# EAGLE library part PIC32MX250F128B (library john433)
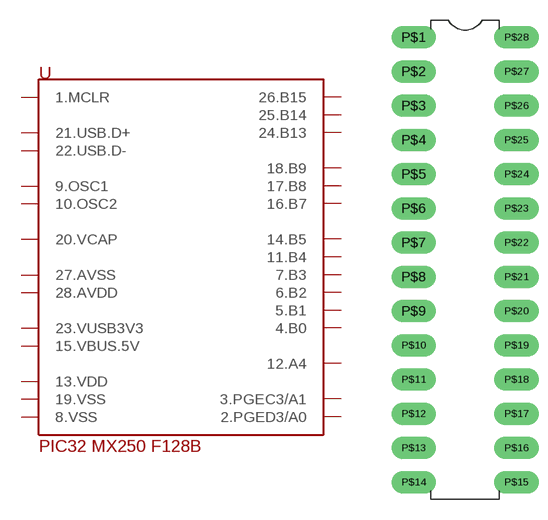
[diagram p0: symbol with the pads of DIL_28_3_JOHN; footprint DIL_28_3_JOHN]

Designator prefix -

## PIC32MX250F128B  [DIL_28_3_JOHN]
P$1  1.MCLR  in
P$2  2.PGED3/A0
P$3  3.PGEC3/A1
P$4  4.B0
P$5  5.B1
P$6  6.B2
P$7  7.B3
P$8  8.VSS  pwr
P$9  9.OSC1  in
P$10  10.OSC2  in
P$11  11.B4
P$12  12.A4
P$13  13.VDD  pwr
P$14  14.B5
P$15  15.VBUS.5V  pwr
P$16  16.B7
P$17  17.B8
P$18  18.B9
P$19  19.VSS  pwr
P$20  20.VCAP  pwr
P$21  21.USB.D+
P$22  22.USB.D-
P$23  23.VUSB3V3  pwr
P$24  24.B13
P$25  25.B14
P$26  26.B15
P$27  27.AVSS  pwr
P$28  28.AVDD  pwr

## Footprint DIL_28_3_JOHN (pad centres in mm)
drill 1.1 long: P$1 0,0; P$2 0,-2.54; P$3 0,-5.08; P$4 0,-7.62; P$5 0,-10.16; P$6 0,-12.7; P$7 0,-15.24; P$8 0,-17.78; P$9 0,-20.32; P$10 0,-22.86; P$11 0,-25.4; P$12 0,-27.94; P$13 0,-30.48; P$14 0,-33.02; P$15 7.62,-33.02; P$16 7.62,-30.48; P$17 7.62,-27.94; P$18 7.62,-25.4; P$19 7.62,-22.86; P$20 7.62,-20.32; P$21 7.62,-17.78; P$22 7.62,-15.24; P$23 7.62,-12.7; P$24 7.62,-10.16; P$25 7.62,-7.62; P$26 7.62,-5.08; P$27 7.62,-2.54; P$28 7.62,0